# Altium integrated library Min_360_Buck.IntLib: 1 symbol
Pins are listed as number, name and electrical type; pins without a type are passive.

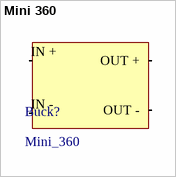
[diagram p0: symbol Mini 360]

## Mini 360
designator Buck?, comment Mini_360
footprint Buck
pins: IN +, IN -, OUT +, OUT -